# Altium schematic symbol library Diode_bridge.SchLib: 1 symbol
Pins are listed as number, name and electrical type; pins without a type are passive.

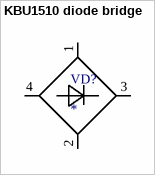
[diagram p0: symbol KBU1510 diode bridge]

## KBU1510 diode bridge
designator VD?
pins: 1 +, 2 -, 3 ~, 4 ~